# Altium schematic symbol library Fontes.SchLib: 1 symbol
Pins are listed as number, name and electrical type; pins without a type are passive.

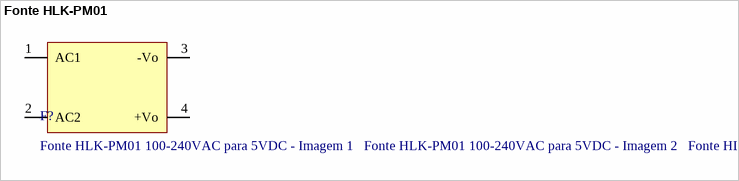
[diagram p0: symbol Fonte HLK-PM01]

## Fonte HLK-PM01
designator F?, comment Fonte HLK-PM01 100-240VAC para 5VDC - Imagem 1   Fonte HLK-PM01 100-240VAC para 5VDC - Imagem 2   Fonte HLK-PM01 100-240VAC para 5VDC - Imagem 3   Lista de Desejos   Fonte HLK-PM01 100-240VAC para 5VDC
footprint Fonte HLK-PM01
pins: 1 AC1, 2 AC2, 3 -Vo, 4 +Vo